# Altium footprint library PCB - POTENTIOMETER - POT BOURNS TRIMPOT 3302.PCBLIB: 1 footprints
Each footprint in its own frame and in the unit in brackets; x right, y up, seen from the top. Pads: shape width x height; smd on the part's side, far side on the other; paste and mask are expansions set on the pad; w line width, h text height; cw(c..) or ccw(c..) is an arc to the next point about the centre after c.
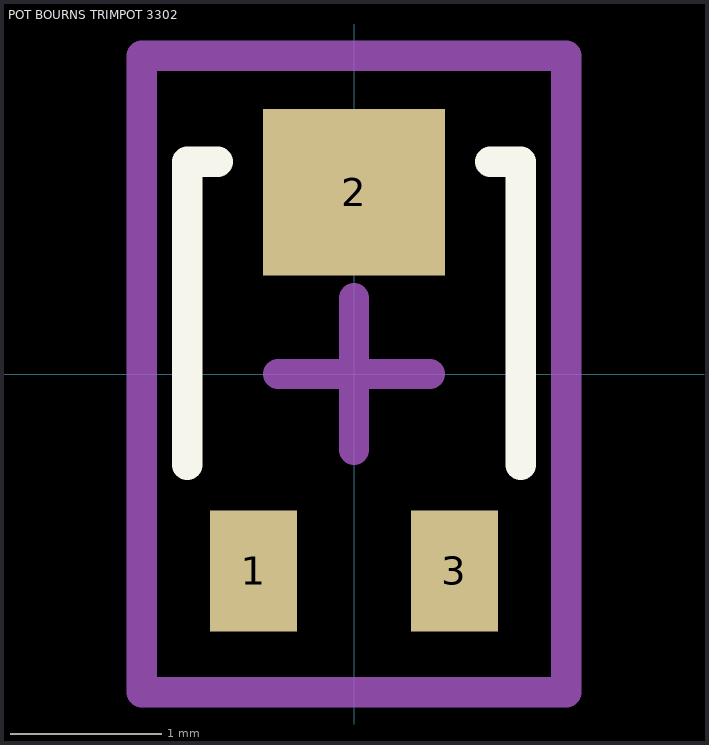
[diagram p0: the footprint, top view; thin cyan lines are the x and y axes]

## POT BOURNS TRIMPOT 3302 [mm] "Bourns Trimpot 3302 - Open Frame 2.75mm x 2.20mm x 1.05mm"
height 1.05
pads (3):
  rect 0.575x0.8 smd: 1(-0.663,-1.3) 3(0.663,-1.3)
  rect 1.2x1.1 smd: 2(0,1.2)
Top Overlay:
  lines w0.2: -1.1,-0.6 -1.1,1.4 -0.9,1.4 ; 0.9,1.4 1.1,1.4 1.1,-0.6
Mechanical 15:
  lines w0.2: -0.5,0 0.5,0 ; 0,-0.5 0,0.5 ; -1.4,-2.1 -1.4,2.1 1.4,2.1 1.4,-2.1 -1.4,-2.1
3D body "Panasonic EVM2W.STEP": height 0.81, standoff 0, extent -1.1,-1.3 1.1,1.45